# Altium footprint library HUSSP8W30P100_2X4_400X320X365P.PcbLib: 1 footprints
Each footprint in its own frame and in the unit in brackets; x right, y up, seen from the top. Pads: shape width x height; smd on the part's side, far side on the other; paste and mask are expansions set on the pad; w line width, h text height; cw(c..) or ccw(c..) is an arc to the next point about the centre after c.
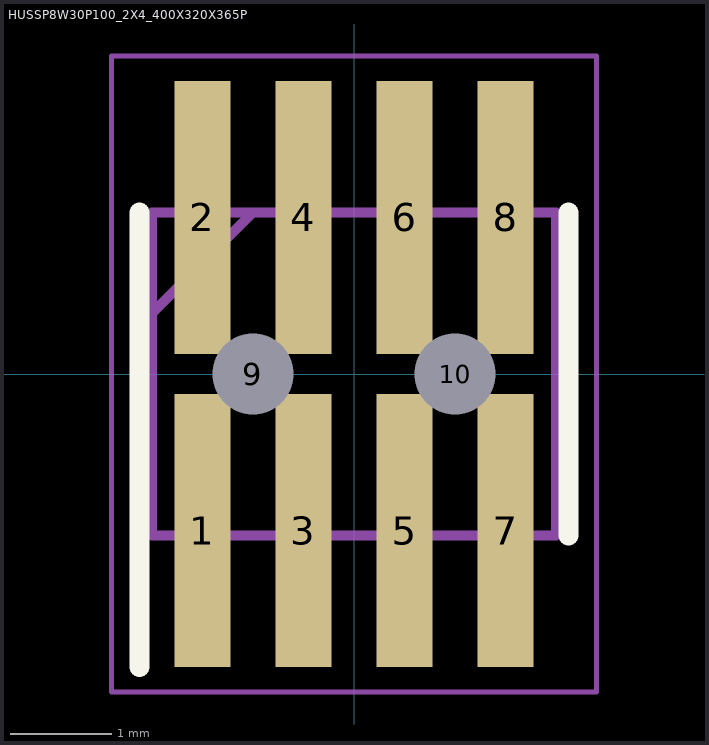
[diagram p0: the footprint, top view; thin cyan lines are the x and y axes]

## HUSSP8W30P100_2X4_400X320X365P [mm]
pads (10):
  rect 0.55x2.7 smd: 1(-1.5,-1.55) 2(-1.5,1.55) 3(-0.5,-1.55) 4(-0.5,1.55) 5(0.5,-1.55) 6(0.5,1.55) 7(1.5,-1.55) 8(1.5,1.55)
  round 0.4 hole 0.8 unplated: 9(-1,0) 10(1,0)
Top Overlay:
  lines w0.2: -2.125,-2.9 -2.125,1.6 ; 2.125,-1.6 2.125,1.6
Mechanical 15:
  lines w0.1: -2,0.6 -1,1.6 ; -2,-1.6 2,-1.6 2,1.6 -2,1.6 -2,-1.6
Mechanical 20:
  lines w0.05: -2.4,-3.15 2.4,-3.15 2.4,3.15 -2.4,3.15 -2.4,-3.15